# Altium footprint library CONN HEADERS 2.54MM PITCH FRICTION LOCK.pcblib: 20 footprints (part 2 of 2)
Each footprint in its own frame and in the unit in brackets; x right, y up, seen from the top. Pads: shape width x height; smd on the part's side, far side on the other; paste and mask are expansions set on the pad; w line width, h text height; cw(c..) or ccw(c..) is an arc to the next point about the centre after c.
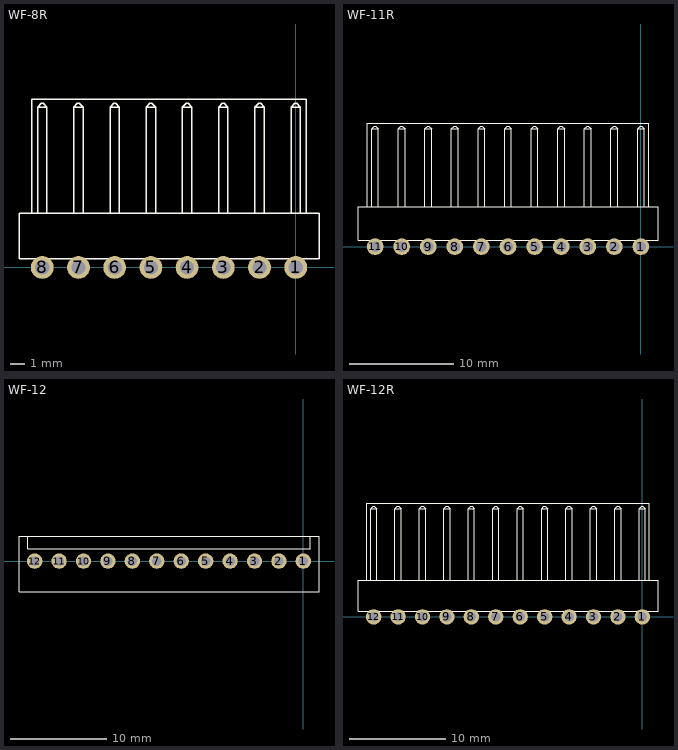
[diagram p1: the footprints below, top view; thin cyan lines are the x and y axes]

## WF-8R [mm] "WF-8R 8POS RIGHT ANGLE, LONG BOTTOM FRICTION LOCK"
height 5.8
pads (8):
  round 1.6 hole 1: 1(0,0) 2(-2.54,0) 3(-5.08,0) 4(-7.62,0) 5(-10.16,0) 6(-12.7,0) 7(-15.24,0) 8(-17.78,0)
Top Overlay:
  lines w0.1: -18.51,3.8 -18.51,11.8 0.73,11.8 0.73,3.8 ; -18.105,3.8 -18.105,11.25 ; -17.455,3.8 -17.455,11.25 ; -15.565,3.8 -15.565,11.25 ; -14.915,3.8 -14.915,11.25 ; -13.025,3.8 -13.025,11.25 ; -12.375,3.8 -12.375,11.25 ; -10.485,3.8 -10.485,11.25 ; -9.835,3.8 -9.835,11.25 ; -7.945,3.8 -7.945,11.25 ; -7.295,3.8 -7.295,11.25 ; -5.405,3.8 -5.405,11.25 ; -4.755,3.8 -4.755,11.25 ; -2.865,3.8 -2.865,11.25 ; -2.215,3.8 -2.215,11.25 ; -0.325,3.8 -0.325,11.25 ; 0.325,3.8 0.325,11.25 ; -18.105,11.25 -17.849,11.506 -17.78,11.506 -17.711,11.506 -17.455,11.25 ; -18.105,11.25 -17.455,11.25 ; -15.565,11.25 -15.309,11.506 -15.24,11.506 -15.171,11.506 -14.915,11.25 ; -15.565,11.25 -14.915,11.25 ; -13.025,11.25 -12.769,11.506 -12.7,11.506 -12.631,11.506 -12.375,11.25 ; -13.025,11.25 -12.375,11.25 ; -10.485,11.25 -9.835,11.25 ; -10.485,11.25 -10.229,11.506 -10.16,11.506 -10.091,11.506 -9.835,11.25 ; -7.945,11.25 -7.689,11.506 -7.62,11.506 -7.551,11.506 -7.295,11.25 ; -7.945,11.25 -7.295,11.25 ; -5.405,11.25 -4.755,11.25 ; -5.405,11.25 -5.149,11.506 -5.08,11.506 -5.011,11.506 -4.755,11.25 ; -2.865,11.25 -2.609,11.506 -2.54,11.506 -2.471,11.506 -2.215,11.25 ; -2.865,11.25 -2.215,11.25 ; -0.325,11.25 0.325,11.25 ; -0.325,11.25 -0.069,11.506 0,11.506 0.069,11.506 0.325,11.25 ; -19.41,0.6 -19.41,3.8 1.63,3.8 1.63,0.6 -19.41,0.6

## WF-11R [mm] "WF-11R 11POS RIGHT ANGLE, LONG BOTTOM FRICTION LOCK"
height 5.8
pads (11):
  round 1.6 hole 1: 1(0,0) 2(-2.54,0) 3(-5.08,0) 4(-7.62,0) 5(-10.16,0) 6(-12.7,0) 7(-15.24,0) 8(-17.78,0) 9(-20.32,0) 10(-22.86,0) 11(-25.4,0)
Top Overlay:
  lines w0.1: -26.13,3.8 -26.13,11.8 0.73,11.8 0.73,3.8 ; -25.725,3.8 -25.725,11.25 ; -25.075,3.8 -25.075,11.25 ; -23.185,3.8 -23.185,11.25 ; -22.535,3.8 -22.535,11.25 ; -20.645,3.8 -20.645,11.25 ; -19.995,3.8 -19.995,11.25 ; -18.105,3.8 -18.105,11.25 ; -17.455,3.8 -17.455,11.25 ; -15.565,3.8 -15.565,11.25 ; -14.915,3.8 -14.915,11.25 ; -13.025,3.8 -13.025,11.25 ; -12.375,3.8 -12.375,11.25 ; -10.485,3.8 -10.485,11.25 ; -9.835,3.8 -9.835,11.25 ; -7.945,3.8 -7.945,11.25 ; -7.295,3.8 -7.295,11.25 ; -5.405,3.8 -5.405,11.25 ; -4.755,3.8 -4.755,11.25 ; -2.865,3.8 -2.865,11.25 ; -2.215,3.8 -2.215,11.25 ; -0.325,3.8 -0.325,11.25 ; 0.325,3.8 0.325,11.25 ; -25.725,11.25 -25.469,11.506 -25.4,11.506 -25.331,11.506 -25.075,11.25 ; -25.725,11.25 -25.075,11.25 ; -23.185,11.25 -22.929,11.506 -22.86,11.506 -22.791,11.506 -22.535,11.25 ; -23.185,11.25 -22.535,11.25 ; -20.645,11.25 -19.995,11.25 ; -20.645,11.25 -20.389,11.506 -20.32,11.506 -20.251,11.506 -19.995,11.25 ; -18.105,11.25 -17.849,11.506 -17.78,11.506 -17.711,11.506 -17.455,11.25 ; -18.105,11.25 -17.455,11.25 ; -15.565,11.25 -14.915,11.25 ; -15.565,11.25 -15.309,11.506 -15.24,11.506 -15.171,11.506 -14.915,11.25 ; -13.025,11.25 -12.375,11.25 ; -13.025,11.25 -12.769,11.506 -12.7,11.506 -12.631,11.506 -12.375,11.25 ; -10.485,11.25 -10.229,11.506 -10.16,11.506 -10.091,11.506 -9.835,11.25 ; -10.485,11.25 -9.835,11.25 ; -7.945,11.25 -7.295,11.25 ; -7.945,11.25 -7.689,11.506 -7.62,11.506 -7.551,11.506 -7.295,11.25 ; -5.405,11.25 -5.149,11.506 -5.08,11.506 -5.011,11.506 -4.755,11.25 ; -5.405,11.25 -4.755,11.25 ; -2.865,11.25 -2.215,11.25 ; -2.865,11.25 -2.609,11.506 -2.54,11.506 -2.471,11.506 -2.215,11.25 ; -0.325,11.25 -0.069,11.506 0,11.506 0.069,11.506 0.325,11.25 ; -0.325,11.25 0.325,11.25 ; -27.03,0.6 1.63,0.6 1.63,3.8 -27.03,3.8 -27.03,0.6

## WF-12 [mm] "WF-12 12POS VERTICAL, LONG FRICTION LOCK"
height 11.2
pads (12):
  round 1.6 hole 1: 1(0,0) 2(-2.54,0) 3(-5.08,0) 4(-7.62,0) 5(-10.16,0) 6(-12.7,0) 7(-15.24,0) 8(-17.78,0) 9(-20.32,0) 10(-22.86,0) 11(-25.4,0) 12(-27.94,0)
Top Overlay:
  lines w0.1: -28.67,2.6 -28.67,1.3 0.73,1.3 0.73,2.6 ; -29.57,-3.2 -29.57,2.6 1.63,2.6 1.63,-3.2 -29.57,-3.2
3D body "SWR25X-NRTC-S12-ST-BA.STEP": height 11.45, standoff -3.35, extent -29.31,-3.175 1.37,2.625

## WF-12R [mm] "WF-12R 12POS RIGHT ANGLE, LONG BOTTOM FRICTION LOCK"
height 5.8
pads (12):
  round 1.6 hole 1: 1(0,0) 2(-2.54,0) 3(-5.08,0) 4(-7.62,0) 5(-10.16,0) 6(-12.7,0) 7(-15.24,0) 8(-17.78,0) 9(-20.32,0) 10(-22.86,0) 11(-25.4,0) 12(-27.94,0)
Top Overlay:
  lines w0.1: -28.67,3.8 -28.67,11.8 0.73,11.8 0.73,3.8 ; -28.265,3.8 -28.265,11.25 ; -27.615,3.8 -27.615,11.25 ; -25.725,3.8 -25.725,11.25 ; -25.075,3.8 -25.075,11.25 ; -23.185,3.8 -23.185,11.25 ; -22.535,3.8 -22.535,11.25 ; -20.645,3.8 -20.645,11.25 ; -19.995,3.8 -19.995,11.25 ; -18.105,3.8 -18.105,11.25 ; -17.455,3.8 -17.455,11.25 ; -15.565,3.8 -15.565,11.25 ; -14.915,3.8 -14.915,11.25 ; -13.025,3.8 -13.025,11.25 ; -12.375,3.8 -12.375,11.25 ; -10.485,3.8 -10.485,11.25 ; -9.835,3.8 -9.835,11.25 ; -7.945,3.8 -7.945,11.25 ; -7.295,3.8 -7.295,11.25 ; -5.405,3.8 -5.405,11.25 ; -4.755,3.8 -4.755,11.25 ; -2.865,3.8 -2.865,11.25 ; -2.215,3.8 -2.215,11.25 ; -0.325,3.8 -0.325,11.25 ; 0.325,3.8 0.325,11.25 ; -28.265,11.25 -28.009,11.506 -27.94,11.506 -27.871,11.506 -27.615,11.25 ; -28.265,11.25 -27.615,11.25 ; -25.725,11.25 -25.075,11.25 ; -25.725,11.25 -25.469,11.506 -25.4,11.506 -25.331,11.506 -25.075,11.25 ; -23.185,11.25 -22.535,11.25 ; -23.185,11.25 -22.929,11.506 -22.86,11.506 -22.791,11.506 -22.535,11.25 ; -20.645,11.25 -20.389,11.506 -20.32,11.506 -20.251,11.506 -19.995,11.25 ; -20.645,11.25 -19.995,11.25 ; -18.105,11.25 -17.455,11.25 ; -18.105,11.25 -17.849,11.506 -17.78,11.506 -17.711,11.506 -17.455,11.25 ; -15.565,11.25 -15.309,11.506 -15.24,11.506 -15.171,11.506 -14.915,11.25 ; -15.565,11.25 -14.915,11.25 ; -13.025,11.25 -12.769,11.506 -12.7,11.506 -12.631,11.506 -12.375,11.25 ; -13.025,11.25 -12.375,11.25 ; -10.485,11.25 -9.835,11.25 ; -10.485,11.25 -10.229,11.506 -10.16,11.506 -10.091,11.506 -9.835,11.25 ; -7.945,11.25 -7.689,11.506 -7.62,11.506 -7.551,11.506 -7.295,11.25 ; -7.945,11.25 -7.295,11.25 ; -5.405,11.25 -4.755,11.25 ; -5.405,11.25 -5.149,11.506 -5.08,11.506 -5.011,11.506 -4.755,11.25 ; -2.865,11.25 -2.609,11.506 -2.54,11.506 -2.471,11.506 -2.215,11.25 ; -2.865,11.25 -2.215,11.25 ; -0.325,11.25 0.325,11.25 ; -0.325,11.25 -0.069,11.506 0,11.506 0.069,11.506 0.325,11.25 ; -29.57,0.6 1.63,0.6 1.63,3.8 -29.57,3.8 -29.57,0.6